# Altium integrated library TPS54360BQDDAQ1.IntLib: 1 symbol
Pins are listed as number, name and electrical type; pins without a type are passive.

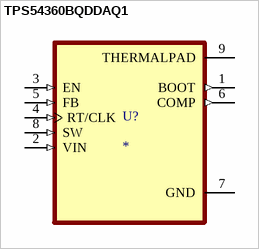
[diagram p0: symbol TPS54360BQDDAQ1]

## TPS54360BQDDAQ1
designator U?
Automotive, 60V Input, 3.5A, Step-Down DC-DC Converter With Eco-mode&trade; 8-SO PowerPAD -40 to 125; MF: Texas Instruments; MP: TPS54360BQDDAQ1; Purchase-URL: https://pricing.snapeda.com/search/part/TPS54360BQDDAQ1/?ref=eda; Value: *; SnapEDA_Link: https://www.snapeda.com/parts/TPS54360BQDDAQ1/Texas%20Instruments/view-part/1129741/?ref=snap; Package: HSOIC-8 Texas Instruments; Check_prices: https://www.snapeda.com/parts/TPS54360BQDDAQ1/Texas%20Instruments/view-part/1129741/?ref=eda; Price: None; Availability: Bad
footprint VREG_LM5017MR/NOPB
pins: 1 BOOT (out), 2 VIN (in), 3 EN (in), 4 RT/CLK (in), 5 FB (in), 6 COMP (out), 7 GND (power), 8 SW (in), 9 THERMALPAD (power)